# Altium schematic symbol library IND,4.7uH,2.6A,Wirewound,SMD.Schlib: 1 symbol
Pins are listed as number, name and electrical type; pins without a type are passive.

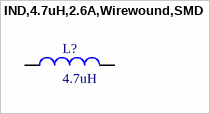
[diagram p0: symbol IND,4.7uH,2.6A,Wirewound,SMD]

## IND,4.7uH,2.6A,Wirewound,SMD
designator L?, comment 4.7uH
4.7µH Shielded Wirewound Inductor 2.6A 45.5mOhm Max Nonstandard
pins: 1, 2